# Altium schematic symbol library COIL 68uH LCLS.SchLib: 1 symbol
Pins are listed as number, name and electrical type; pins without a type are passive.

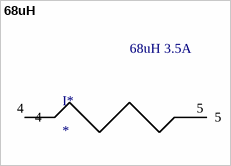
[diagram p0: symbol 68uH]

## 68uH
designator I*
footprint PCBComponent_1
pins: 4, 5
text: 68uH 3.5A